# Altium schematic symbol library Modulos.SchLib: 4 symbols
Pins are listed as number, name and electrical type; pins without a type are passive.

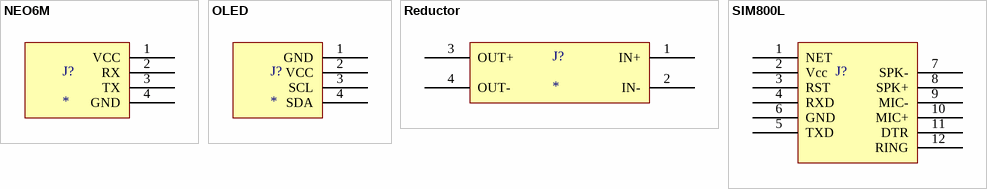
[diagram p0: symbols NEO6M to SIM800L]

## NEO6M
designator J?
footprint NEO6M
pins: 1 VCC, 2 RX, 3 TX, 4 GND

## OLED
designator J?
footprint OLED
pins: 1 GND, 2 VCC, 3 SCL, 4 SDA

## Reductor
designator J?
footprint Reductor
pins: 1 IN+, 2 IN-, 3 OUT+, 4 OUT-

## SIM800L
designator J?
footprint SIM800L
pins: 1 NET, 2 Vcc, 3 RST, 4 RXD, 5 TXD, 6 GND, 7 SPK-, 8 SPK+, 9 MIC-, 10 MIC+, 11 DTR, 12 RING